# Altium footprint library 升压降压模块.PcbLib: 4 footprints
Each footprint in its own frame and in the unit in brackets; x right, y up, seen from the top. Pads: shape width x height; smd on the part's side, far side on the other; paste and mask are expansions set on the pad; w line width, h text height; cw(c..) or ccw(c..) is an arc to the next point about the centre after c.
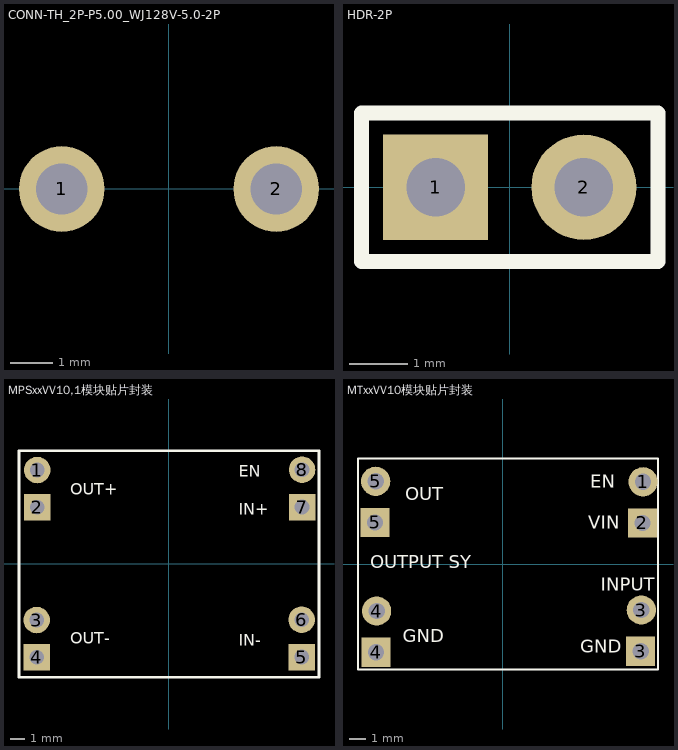
[diagram p0: the footprints below, top view; thin cyan lines are the x and y axes]

## CONN-TH_2P-P5.00_WJ128V-5.0-2P [mm]
pads (2):
  round 2 hole 1.2 mask+0.051: 1(-2.504,0) 2(2.504,0)
Mechanical 15:
  region: -2.954,0.4 -2.054,0.4 -2.054,-0.4 -2.954,-0.4
  region: 2.054,0.4 2.954,0.4 2.954,-0.4 2.054,-0.4

## HDR-2P [mm]
pads (2):
  rect 1.8x1.8 hole 1 paste+0 mask+0.051: 1(-1.27,0)
  round 1.8 hole 1 paste+0 mask+0.051: 2(1.27,0)
Top Overlay:
  lines w0.254: -2.54,-1.27 -2.54,1.27 2.54,1.27 2.54,-1.27 -2.54,-1.27
Mechanical 15:
  region: 0.95,0.32 1.59,0.32 1.59,-0.32 0.95,-0.32
  region: -1.59,0.32 -0.95,0.32 -0.95,-0.32 -1.59,-0.32
  region: -2.48,-1.27 -2.48,-1.245 -2.515,-1.21 -2.565,-1.21 -2.6,-1.245 -2.6,-1.27 -2.6,-1.295 -2.565,-1.33 -2.515,-1.33 -2.48,-1.295 -2.48,-1.27
  lines w0.051: -2.54,-1.27 2.54,-1.27 2.54,1.27 -2.54,1.27 -2.54,-1.27

## MPSxxVV10,1模块贴片封装 [mm]
pads (8):
  round 1.8 hole 1 paste+0 mask+0.051: 1(-8.96,6.39) 3(-9,-3.81) 6(9.02,-3.79) 8(9.05,6.41)
  rect 1.8x1.8 hole 1 paste+0 mask+0.051: 2(-8.96,3.85) 4(-9,-6.35) 5(9.02,-6.33) 7(9.05,3.87)
Top Layer:
  region: -9.28,3.53 -9.28,4.17 -8.64,4.17 -8.64,3.53
  region: -9.28,6.07 -9.28,6.71 -8.64,6.71 -8.64,6.07
Top Overlay:
  lines w0.2: -10.2,-7.7 10.2,-7.7 10.2,7.7 -10.2,7.7 -10.2,-7.7
  text "EN" at 4.75,5.93 h0.8
  text "IN+" at 4.75,3.36 h0.8
  text "IN-" at 4.75,-5.57 h0.8
  text "OUT-" at -6.71,-5.41 h0.8
  text "OUT+" at -6.71,4.71 h0.8
Mechanical 15:
  region: -9.32,-6.67 -9.32,-6.03 -8.68,-6.03 -8.68,-6.67
  region: -9.32,-4.13 -9.32,-3.49 -8.68,-3.49 -8.68,-4.13
  region: 8.7,-6.65 8.7,-6.01 9.34,-6.01 9.34,-6.65
  region: 8.7,-4.11 8.7,-3.47 9.34,-3.47 9.34,-4.11
  region: 8.73,3.55 8.73,4.19 9.37,4.19 9.37,3.55
  region: 8.73,6.09 8.73,6.73 9.37,6.73 9.37,6.09

## MTxxVV10模块贴片封装 [mm]
pads (8):
  round 1.8 hole 1 paste+0 mask+0.051: 1(8.66,5.07) 3(8.55,-2.84) 4(-7.77,-2.9) 5(-7.83,5.1)
  rect 1.8x1.8 hole 1 paste+0 mask+0.051: 2(8.62,2.53) 3(8.51,-5.38) 4(-7.81,-5.44) 5(-7.87,2.56)
Top Layer:
  region: -8.15,2.24 -8.15,2.88 -7.51,2.88 -7.51,2.24
  region: -8.15,4.78 -8.15,5.42 -7.51,5.42 -7.51,4.78
  region: -8.09,-5.76 -8.09,-5.12 -7.45,-5.12 -7.45,-5.76
  region: -8.09,-3.22 -8.09,-2.58 -7.45,-2.58 -7.45,-3.22
  region: 8.23,-5.7 8.23,-5.06 8.87,-5.06 8.87,-5.7
  region: 8.23,-3.16 8.23,-2.52 8.87,-2.52 8.87,-3.16
Top Overlay:
  lines w0.127: -8.92,-6.5 9.58,-6.5 9.58,6.5 -8.92,6.5 -8.92,-6.5
  text "OUT" at -6.02,3.937 h0.8
  text "EN" at 5.41,4.699 h0.8
  text "GND" at -6.147,-4.826 h0.8
  text "GND" at 4.775,-5.461 h0.8
  text "VIN" at 5.283,2.159 h0.8
  text "INPUT" at 6.045,-1.651 h0.8
  text "OUTPUT SY" at -8.179,-0.254 h0.8
Mechanical 15:
  region: 8.34,2.21 8.34,2.85 8.98,2.85 8.98,2.21
  region: 8.34,4.75 8.34,5.39 8.98,5.39 8.98,4.75